# Altium footprint library TPS55340RTER.PcbLib: 2 footprints
Each footprint in its own frame and in the unit in brackets; x right, y up, seen from the top. Pads: shape width x height; smd on the part's side, far side on the other; paste and mask are expansions set on the pad; w line width, h text height; cw(c..) or ccw(c..) is an arc to the next point about the centre after c.
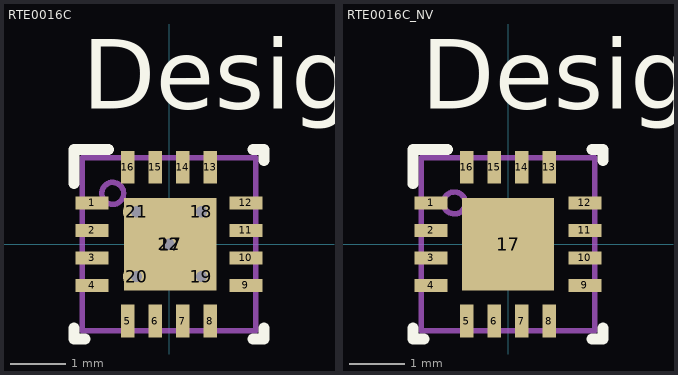
[diagram p0: the footprints below, top view; thin cyan lines are the x and y axes]

## RTE0016C [mm]
pads (22):
  rect 0.6x0.24 smd paste+0 mask+0.051: 1(-1.4,0.75) 2(-1.4,0.25) 3(-1.4,-0.25) 4(-1.4,-0.75) 9(1.4,-0.75) 10(1.4,-0.25) 11(1.4,0.25) 12(1.4,0.75)
  rect 0.24x0.6 smd paste+0 mask+0.051: 5(-0.75,-1.4) 6(-0.25,-1.4) 7(0.25,-1.4) 8(0.75,-1.4) 13(0.75,1.4) 14(0.25,1.4) 15(-0.25,1.4) 16(-0.75,1.4)
  rect 1.68x1.68 smd paste-0.827 mask+0.051: 17(0.025,0)
  round 0.5 / inner round 1.524 / far side round 0.5 hole 0.203 paste-0.25 mask+0.051: 18(0.59,0.59) 19(0.59,-0.59) 20(-0.59,-0.59) 21(-0.59,0.59) 22(0,0)
Top Overlay:
  lines w0.2: -1.725,-1.525 -1.725,-1.725 -1.525,-1.725 ; -1.725,1.1 -1.725,1.725 -1.1,1.725 ; 1.525,-1.725 1.725,-1.725 1.725,-1.525 ; 1.525,1.725 1.725,1.725 1.725,1.525
  text "Designator1012" at -1.575,2.464 h1.27
Top Paste:
  region: -0.774,-0.738 -0.775,-0.728 -0.775,0.729 -0.774,0.738 -0.771,0.746 -0.767,0.754 -0.761,0.761 -0.754,0.767 -0.746,0.771 -0.738,0.774 -0.728,0.775 0.728,0.775 0.738,0.774 0.746,0.771 0.754,0.767 0.761,0.761 0.767,0.754 0.771,0.746 0.774,0.738 0.775,0.729 0.775,-0.728 0.774,-0.738 0.771,-0.746 0.767,-0.754 0.761,-0.761 0.754,-0.767 0.746,-0.771 0.738,-0.774 0.728,-0.775 -0.728,-0.775 -0.738,-0.774 -0.746,-0.771 -0.754,-0.767 -0.761,-0.761 -0.767,-0.754 -0.771,-0.746
Mechanical 13:
  circle w0.1: c-1.025,0.925 r0.2
  lines w0.1: -1.575,-1.575 1.575,-1.575 1.575,1.575 -1.575,1.575 -1.575,-1.575

## RTE0016C_NV [mm]
pads (17):
  rect 0.6x0.24 smd paste+0 mask+0.051: 1(-1.4,0.75) 2(-1.4,0.25) 3(-1.4,-0.25) 4(-1.4,-0.75) 9(1.4,-0.75) 10(1.4,-0.25) 11(1.4,0.25) 12(1.4,0.75)
  rect 0.24x0.6 smd paste+0 mask+0.051: 5(-0.75,-1.4) 6(-0.25,-1.4) 7(0.25,-1.4) 8(0.75,-1.4) 13(0.75,1.4) 14(0.25,1.4) 15(-0.25,1.4) 16(-0.75,1.4)
  rect 1.68x1.68 smd paste-0.827 mask+0.051: 17(0,0)
Top Overlay:
  lines w0.2: -1.725,-1.525 -1.725,-1.725 -1.525,-1.725 ; -1.725,1.1 -1.725,1.725 -1.1,1.725 ; 1.525,-1.725 1.725,-1.725 1.725,-1.525 ; 1.525,1.725 1.725,1.725 1.725,1.525
  text "Designator1013" at -1.575,2.464 h1.27
Top Paste:
  region: -0.774,-0.738 -0.775,-0.728 -0.775,0.728 -0.774,0.738 -0.771,0.746 -0.767,0.754 -0.761,0.761 -0.754,0.767 -0.746,0.771 -0.738,0.774 -0.728,0.775 0.728,0.775 0.738,0.774 0.746,0.771 0.754,0.767 0.761,0.761 0.767,0.754 0.771,0.746 0.774,0.738 0.775,0.728 0.775,-0.728 0.774,-0.738 0.771,-0.746 0.767,-0.754 0.761,-0.761 0.754,-0.767 0.746,-0.771 0.738,-0.774 0.728,-0.775 -0.728,-0.775 -0.738,-0.774 -0.746,-0.771 -0.754,-0.767 -0.761,-0.761 -0.767,-0.754 -0.771,-0.746
Mechanical 13:
  circle w0.1: c-0.975,0.75 r0.2
  lines w0.1: -1.575,-1.575 -1.575,1.575 1.575,1.575 1.575,-1.575 -1.575,-1.575